# Altium schematic symbol library CX2016DB32000D0FLJCC.SchLib: 1 symbol
Pins are listed as number, name and electrical type; pins without a type are passive.

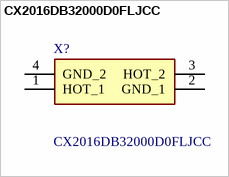
[diagram p0: symbol CX2016DB32000D0FLJCC]

## CX2016DB32000D0FLJCC
designator X?
AVX - CX2016DB32000D0FLJCC - CRYSTAL, 32MHZ, 8PF, 2 X 1.6MM; Geometry.Height: 0.45mm; Manufacturer_Name: AVX; Manufacturer_Part_Number: CX2016DB32000D0FLJCC; Mouser Part Number: 581-CX2016DB32DFLJCC; Mouser Price/Stock: https://www.mouser.com/Search/Refine.aspx?Keyword=581-CX2016DB32DFLJCC; Arrow Part Number: CX2016DB32000D0FLJCC; Arrow Price/Stock: https://www.arrow.com/en/products/cx2016db32000d0fljcc/avx; Datasheet Link: https://componentsearchengine.com/Datasheets/1/CX2016DB32000D0FLJCC.pdf
footprint CX2016DB32000D0FLJCC
pins: 1 HOT_1, 2 GND_1, 3 HOT_2, 4 GND_2